# Altium footprint library STM32F071CBUx.PcbLib: 1 footprints
Each footprint in its own frame and in the unit in brackets; x right, y up, seen from the top. Pads: shape width x height; smd on the part's side, far side on the other; paste and mask are expansions set on the pad; w line width, h text height; cw(c..) or ccw(c..) is an arc to the next point about the centre after c.
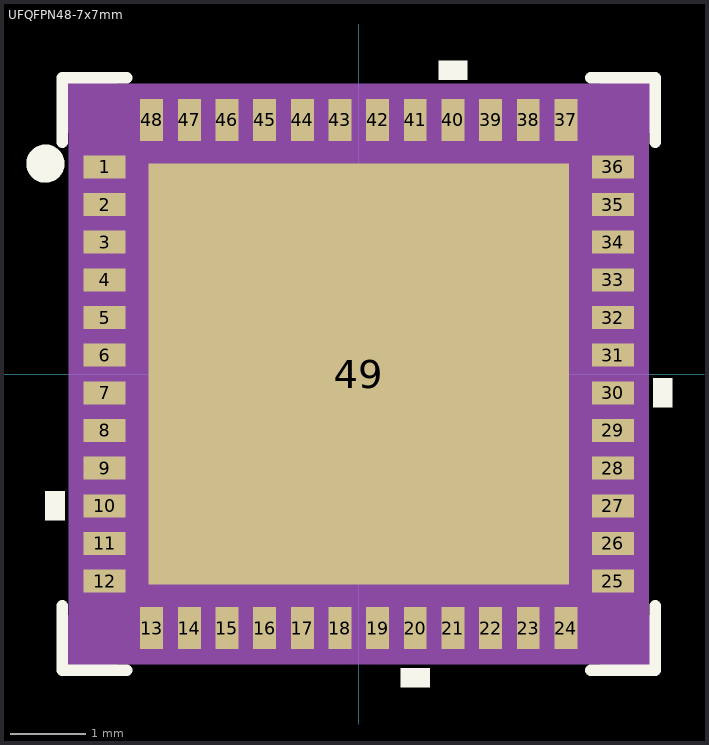
[diagram p0: the footprint, top view; thin cyan lines are the x and y axes]

## UFQFPN48-7x7mm [mil]
pads (49):
  rect 22x12 smd paste-6: 1(-132.87,108.3) 2(-132.87,88.61) 3(-132.87,68.92) 4(-132.87,49.23) 5(-132.87,29.54) 6(-132.87,9.85) 7(-132.87,-9.85) 8(-132.87,-29.54) 9(-132.87,-49.23) 10(-132.87,-68.92) 11(-132.87,-88.61) 12(-132.87,-108.3) 25(132.87,-108.3) 26(132.87,-88.61) 27(132.87,-68.92) 28(132.87,-49.23) 29(132.87,-29.54) 30(132.87,-9.85) 31(132.87,9.85) 32(132.87,29.54) 33(132.87,49.23) 34(132.87,68.92) 35(132.87,88.61) 36(132.87,108.3)
  rect 12x22 smd paste-6: 13(-108.3,-132.87) 14(-88.61,-132.87) 15(-68.92,-132.87) 16(-49.23,-132.87) 17(-29.54,-132.87) 18(-9.85,-132.87) 19(9.85,-132.87) 20(29.54,-132.87) 21(49.23,-132.87) 22(68.92,-132.87) 23(88.61,-132.87) 24(108.3,-132.87) 37(108.3,132.87) 38(88.61,132.87) 39(68.92,132.87) 40(49.23,132.87) 41(29.54,132.87) 42(9.85,132.87) 43(-9.85,132.87) 44(-29.54,132.87) 45(-49.23,132.87) 46(-68.92,132.87) 47(-88.61,132.87) 48(-108.3,132.87)
  rect 220x220 smd paste-110: 49(0,0)
Top Overlay:
  circle w10: c-163.87,110 r5
  region: -153.87,-61.41 -163.87,-61.41 -163.87,-76.42 -153.87,-76.42
  region: 37.03,-153.87 22.04,-153.87 22.04,-163.87 37.03,-163.87
  region: 153.87,-2.35 163.87,-2.35 163.87,-17.34 153.87,-17.34
  region: 56.73,153.87 41.73,153.87 41.73,163.87 56.73,163.87
  lines w6: -155,-121.21 -155,-155 -121.21,-155 ; -155,121.21 -155,155 -121.21,155 ; 121.21,-155 155,-155 155,-121.21 ; 121.21,155 155,155 155,121.21
Top Paste:
  drawing of 64 lines, arcs and shapes, not listed
Top Solder:
  drawing of 48 lines, arcs and shapes, not listed
Mechanical 13:
  lines w1: -140,90 -90,140 ; -140,-140 140,-140 140,140 -140,140 -140,-140 ; -140,-114.3 -140,-102.3 -140,-114.3 ; -140,-94.61 -140,-82.61 -140,-94.61 ; -140,-74.92 -140,-62.91 -140,-74.92 ; -140,-55.23 -140,-43.23 -140,-55.23 ; -140,-35.53 -140,-23.54 -140,-35.53 ; -140,-15.85 -140,-3.85 -140,-15.85 ; -140,3.85 -140,15.85 -140,3.85 ; -140,23.54 -140,35.53 -140,23.54 ; -140,43.23 -140,55.23 -140,43.23 ; -140,62.91 -140,74.92 -140,62.91 ; -140,82.61 -140,94.61 -140,82.61 ; -140,102.3 -140,114.3 -140,102.3 ; -114.3,-140 -102.3,-140 -114.3,-140 ; -114.3,140 -102.3,140 -114.3,140 ; -94.61,-140 -82.61,-140 -94.61,-140 ; -94.61,140 -82.61,140 -94.61,140 ; -74.92,-140 -62.91,-140 -74.92,-140 ; -74.92,140 -62.91,140 -74.92,140 ; -55.23,-140 -43.23,-140 -55.23,-140 ; -55.23,140 -43.23,140 -55.23,140 ; -35.53,-140 -23.54,-140 -35.53,-140 ; -35.53,140 -23.54,140 -35.53,140 ; -15.85,-140 -3.85,-140 -15.85,-140 ; -15.85,140 -3.85,140 -15.85,140 ; 3.85,-140 15.85,-140 3.85,-140 ; 3.85,140 15.85,140 3.85,140 ; 23.54,-140 35.53,-140 23.54,-140 ; 23.54,140 35.53,140 23.54,140 ; 43.23,-140 55.23,-140 43.23,-140 ; 43.23,140 55.23,140 43.23,140 ; 62.91,-140 74.92,-140 62.91,-140 ; 62.91,140 74.92,140 62.91,140 ; 82.61,-140 94.61,-140 82.61,-140 ; 82.61,140 94.61,140 82.61,140 ; 102.3,-140 114.3,-140 102.3,-140 ; 102.3,140 114.3,140 102.3,140 ; 140,-114.3 140,-102.3 140,-114.3 ; 140,-94.61 140,-82.61 140,-94.61 ; 140,-74.92 140,-62.91 140,-74.92 ; 140,-55.23 140,-43.23 140,-55.23 ; 140,-35.53 140,-23.54 140,-35.53 ; 140,-15.85 140,-3.85 140,-15.85 ; 140,3.85 140,15.85 140,3.85 ; 140,23.54 140,35.53 140,23.54 ; 140,43.23 140,55.23 140,43.23 ; 140,62.91 140,74.92 140,62.91 ; 140,82.61 140,94.61 140,82.61 ; 140,102.3 140,114.3 140,102.3
  text "*" at -124.37,93.14 h50
Mechanical 15:
  region: -128.29,-150 -150,-150 -150,-128.29 -148.87,-128.29 -148.87,128.29 -150,128.29 -150,150 -128.29,150 -128.29,148.87 128.29,148.87 128.29,150 150,150 150,128.29 148.87,128.29 148.87,-128.29 150,-128.29 150,-150 128.29,-150 128.29,-148.87 -128.29,-148.87
  lines w6: -150,-150 -150,-128.29 -148.87,-128.29 -148.87,128.29 -150,128.29 -150,150 -128.29,150 -128.29,148.87 128.29,148.87 128.29,150 150,150 150,128.29 148.87,128.29 148.87,-128.29 150,-128.29 150,-150 128.29,-150 128.29,-148.87 -128.29,-148.87 -128.29,-150 -150,-150
3D body: height 10, standoff 0, extent 0,0 10,10
3D body "QFN48.step": height 43.81, standoff 0.5, extent -137.8,-137.79 137.79,137.8